# Altium footprint library Button_Switch_SMD.PcbLib: 169 footprints (part 10 of 12)
Each footprint in its own frame and in the unit in brackets; x right, y up, seen from the top. Pads: shape width x height; smd on the part's side, far side on the other; paste and mask are expansions set on the pad; w line width, h text height; cw(c..) or ccw(c..) is an arc to the next point about the centre after c.
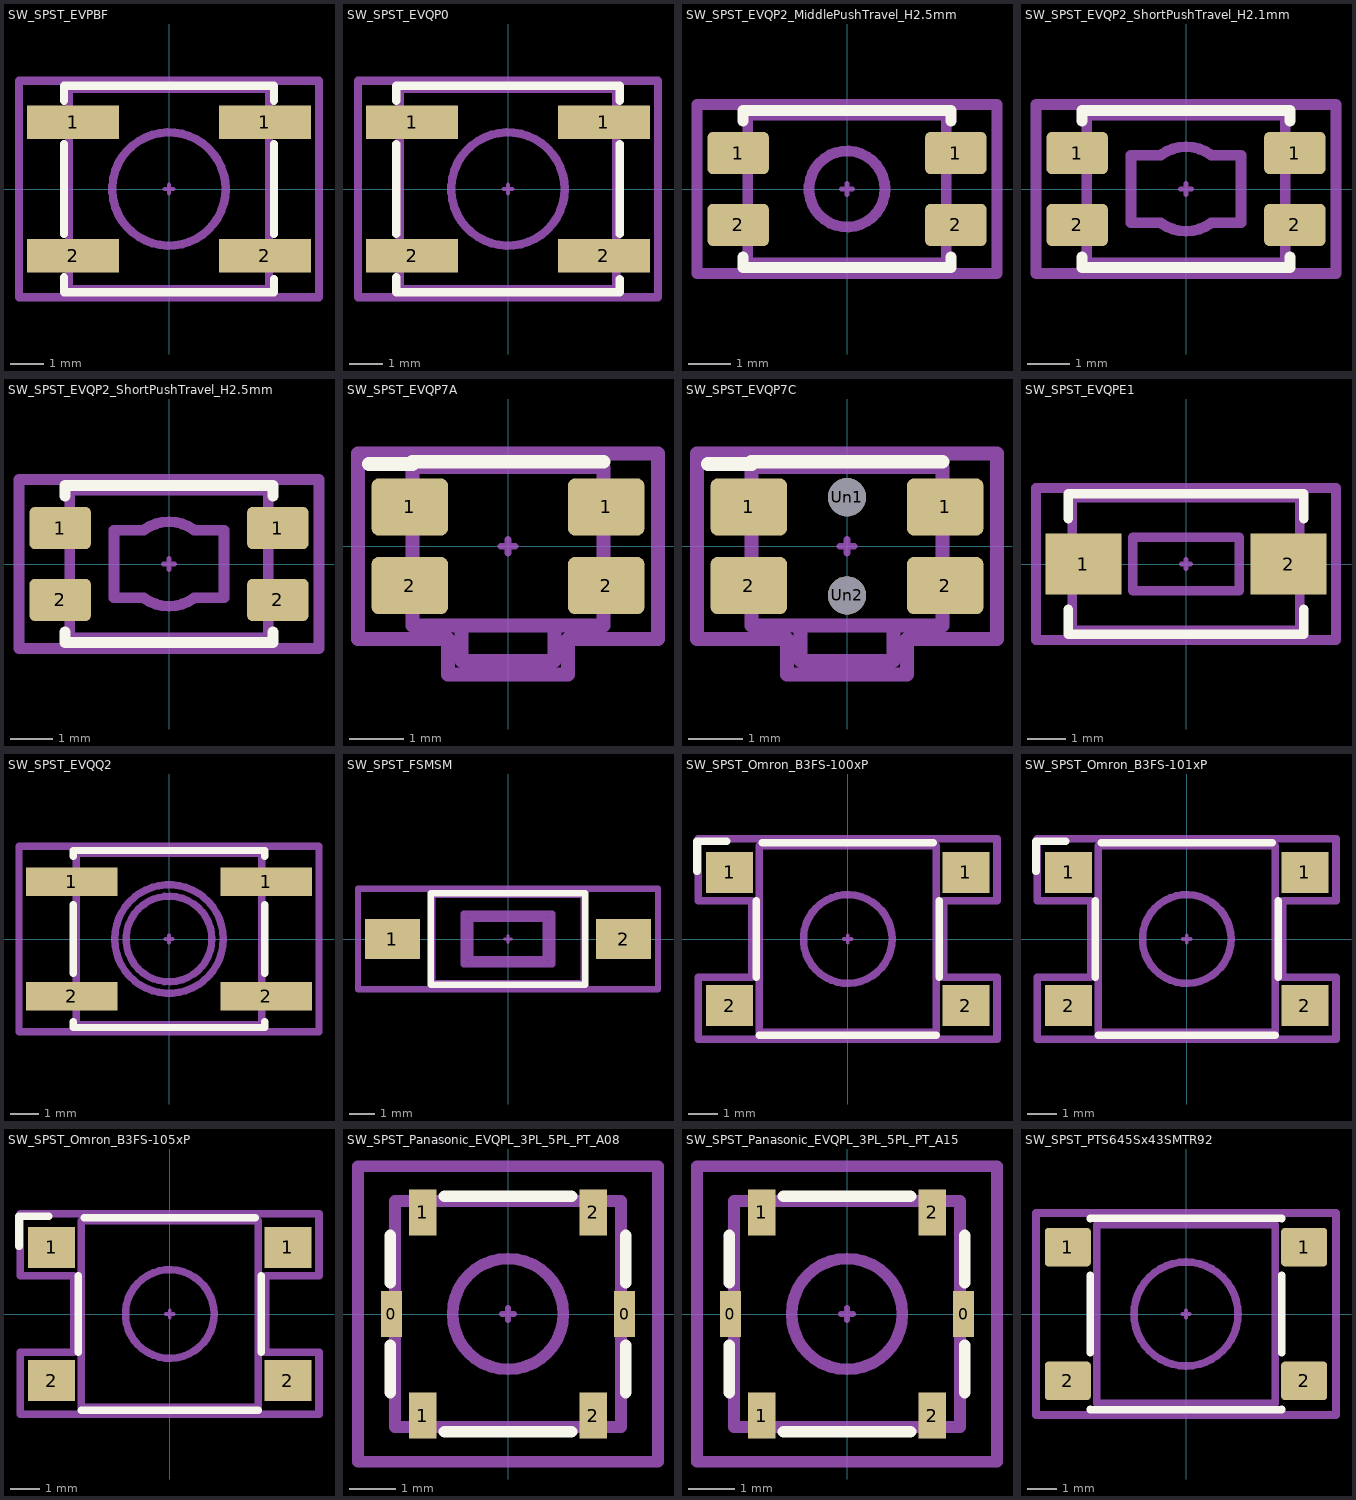
[diagram p9: the footprints below, top view; thin cyan lines are the x and y axes]

## SW_SPST_EVPBF [mm] "SW_SPST_EVPBF"
pads (4):
  rect 2.75x1 smd: 1(-2.88,2) 1(2.88,2) 2(-2.88,-2) 2(2.88,-2)
F.SilkS:
  lines w0.254: -3.15,-2.65 -3.15,-3.1 3.15,-3.1 3.15,-2.7 ; -3.15,-1.35 -3.15,1.35 ; -3.15,2.65 -3.15,3.1 3.15,3.1 3.15,2.65 ; 3.15,-1.35 3.15,1.35
Top Component Center:
  lines w0.127: -0.127,0 0.127,0 ; 0,-0.127 0,0.127
Top Assembly:
  circle w0.254: c0,0 r1.7
  lines w0.254: -3,-3 3,-3 3,3 -3,3 -3,-3
Top Courtyard:
  lines w0.254: -4.5,-3.25 4.5,-3.25 4.5,3.25 -4.5,3.25 -4.5,-3.25
Top Designator:
  text ".Designator" at -3.432,-0.345 h1.52

## SW_SPST_EVQP0 [mm] "SW_SPST_EVQP0"
pads (4):
  rect 2.75x1 smd: 1(-2.88,2) 1(2.88,2) 2(-2.88,-2) 2(2.88,-2)
F.SilkS:
  lines w0.254: -3.35,-2.65 -3.35,-3.1 3.35,-3.1 3.35,-2.7 ; -3.35,-1.35 -3.35,1.35 ; -3.35,2.65 -3.35,3.1 3.35,3.1 3.35,2.65 ; 3.35,-1.35 3.35,1.35
Top Component Center:
  lines w0.127: -0.127,0 0.127,0 ; 0,-0.127 0,0.127
Top Assembly:
  circle w0.254: c0,0 r1.7
  lines w0.254: -3.25,-3 3.25,-3 3.25,3 -3.25,3 -3.25,-3
Top Courtyard:
  lines w0.254: -4.5,-3.25 4.5,-3.25 4.5,3.25 -4.5,3.25 -4.5,-3.25
Top Designator:
  text ".Designator" at -3.432,-0.345 h1.52

## SW_SPST_EVQP2_MiddlePushTravel_H2.5mm [mm] "SW_SPST_EVQP2_MiddlePushTravel_H2.5mm"
pads (4):
  rrect25% 1.45x1 smd: 1(-2.575,0.85) 1(2.575,0.85) 2(-2.575,-0.85) 2(2.575,-0.85)
F.SilkS:
  lines w0.254: -2.46,-1.61 -2.46,-1.86 2.46,-1.86 2.46,-1.61 ; -2.46,1.61 -2.46,1.86 2.46,1.86 2.46,1.61
Top Component Center:
  lines w0.127: -0.127,0 0.127,0 ; 0,-0.127 0,0.127
Top Assembly:
  circle w0.254: c0,0 r0.9
  lines w0.254: -2.35,-1.75 2.35,-1.75 2.35,1.75 -2.35,1.75 -2.35,-1.75
Top Courtyard:
  lines w0.254: -3.55,-2 3.55,-2 3.55,2 -3.55,2 -3.55,-2
Top Designator:
  text ".Designator" at -3.432,-0.345 h1.52

## SW_SPST_EVQP2_ShortPushTravel_H2.1mm [mm] "SW_SPST_EVQP2_ShortPushTravel_H2.1mm"
pads (4):
  rrect25% 1.45x1 smd: 1(-2.575,0.85) 1(2.575,0.85) 2(-2.575,-0.85) 2(2.575,-0.85)
F.SilkS:
  lines w0.254: -2.46,-1.61 -2.46,-1.86 2.46,-1.86 2.46,-1.61 ; -2.46,1.61 -2.46,1.86 2.46,1.86 2.46,1.61
Top Component Center:
  lines w0.127: -0.127,0 0.127,0 ; 0,-0.127 0,0.127
Top Assembly:
  lines w0.254: -2.35,-1.75 -2.35,1.75 2.35,1.75 2.35,-1.75 -2.35,-1.75 ; -1.3,-0.8 -1.3,0.8 -0.6,0.8 cw(c0,0) 0.6,0.8 1.3,0.8 1.3,-0.8 0.6,-0.8 cw(c0,0) -0.6,-0.8 -1.3,-0.8
Top Courtyard:
  lines w0.254: -3.55,-2 -3.55,2 3.55,2 3.55,-2 -3.55,-2
Top Designator:
  text ".Designator" at -3.432,-0.345 h1.52

## SW_SPST_EVQP2_ShortPushTravel_H2.5mm [mm] "SW_SPST_EVQP2_ShortPushTravel_H2.5mm"
pads (4):
  rrect25% 1.45x1 smd: 1(-2.575,0.85) 1(2.575,0.85) 2(-2.575,-0.85) 2(2.575,-0.85)
F.SilkS:
  lines w0.254: -2.46,-1.61 -2.46,-1.86 2.46,-1.86 2.46,-1.61 ; -2.46,1.61 -2.46,1.86 2.46,1.86 2.46,1.61
Top Component Center:
  lines w0.127: -0.127,0 0.127,0 ; 0,-0.127 0,0.127
Top Assembly:
  lines w0.254: -2.35,-1.75 -2.35,1.75 2.35,1.75 2.35,-1.75 -2.35,-1.75 ; -1.3,-0.8 -1.3,0.8 -0.6,0.8 cw(c0,0) 0.6,0.8 1.3,0.8 1.3,-0.8 0.6,-0.8 cw(c0,0) -0.6,-0.8 -1.3,-0.8
Top Courtyard:
  lines w0.254: -3.55,-2 -3.55,2 3.55,2 3.55,-2 -3.55,-2
Top Designator:
  text ".Designator" at -3.432,-0.345 h1.52

## SW_SPST_EVQP7A [mm] "SW_SPST_EVQP7A"
pads (4):
  rrect24% 1.4x1.05 smd: 1(-1.8,0.72) 1(1.8,0.72) 2(-1.8,-0.72) 2(1.8,-0.72)
F.SilkS:
  lines w0.254: -2.55,1.51 -1.75,1.51 -1.75,1.55 1.75,1.55
Top Component Center:
  lines w0.127: -0.127,0 0.127,0 ; 0,-0.127 0,0.127
Top Assembly:
  lines w0.254: -0.85,-1.45 -0.85,-2.1 0.85,-2.1 0.85,-1.45 ; -1.75,-1.45 -1.75,1.45 1.75,1.45 1.75,-1.45 -1.75,-1.45
Top Courtyard:
  lines w0.254: -2.75,-1.7 -2.75,1.7 2.75,1.7 2.75,-1.7 1.1,-1.7 1.1,-2.35 -1.1,-2.35 -1.1,-1.7 -2.75,-1.7
Top Designator:
  text ".Designator" at -3.432,-0.345 h1.52

## SW_SPST_EVQP7C [mm] "SW_SPST_EVQP7C"
pads (6):
  rrect24% 1.4x1.05 smd: 1(-1.8,0.72) 1(1.8,0.72) 2(-1.8,-0.72) 2(1.8,-0.72)
  round 0.7 hole 0.7: Un1(0,0.9) Un2(0,-0.9)
F.SilkS:
  lines w0.254: -2.55,1.51 -1.75,1.51 -1.75,1.55 1.75,1.55
Top Component Center:
  lines w0.127: -0.127,0 0.127,0 ; 0,-0.127 0,0.127
Top Assembly:
  lines w0.254: -0.85,-1.45 -0.85,-2.1 0.85,-2.1 0.85,-1.45 ; -1.75,-1.45 1.75,-1.45 1.75,1.45 -1.75,1.45 -1.75,-1.45
Top Courtyard:
  lines w0.254: -2.75,-1.7 -1.1,-1.7 -1.1,-2.35 1.1,-2.35 1.1,-1.7 2.75,-1.7 2.75,1.7 -2.75,1.7 -2.75,-1.7
Top Designator:
  text ".Designator" at -3.432,-0.345 h1.52

## SW_SPST_EVQPE1 [mm] "SW_SPST_EVQPE1"
pads (2):
  rect 2x1.6 smd: 1(-2.7,0) 2(2.7,0)
F.SilkS:
  lines w0.254: -3.1,-1.2 -3.1,-1.85 3.1,-1.85 3.1,-1.2 ; -3.1,1.2 -3.1,1.85 3.1,1.85 3.1,1.2
Top Component Center:
  lines w0.127: -0.127,0 0.127,0 ; 0,-0.127 0,0.127
Top Assembly:
  lines w0.254: -3,-1.75 -3,1.75 3,1.75 3,-1.75 -3,-1.75 ; -1.4,-0.7 -1.4,0.7 1.4,0.7 1.4,-0.7 -1.4,-0.7
Top Courtyard:
  lines w0.254: -3.95,-2 -3.95,2 3.95,2 3.95,-2 -3.95,-2
Top Designator:
  text ".Designator" at -3.432,0.798 h1.52
3D body "SW_SPST_EVQPE1.step": height 2.1, standoff 0, extent -2.55,-1.75 2.55,1.75

## SW_SPST_EVQQ2 [mm] "SW_SPST_EVQQ2"
pads (4):
  rect 3.2x1 smd: 1(-3.4,2) 1(3.4,2) 2(-3.4,-2) 2(3.4,-2)
F.SilkS:
  lines w0.254: -3.35,-2.9 -3.35,-3.1 3.35,-3.1 3.35,-2.9 ; -3.35,-1.2 -3.35,1.2 ; -3.35,2.9 -3.35,3.1 3.35,3.1 3.35,2.9 ; 3.35,-1.2 3.35,1.2
Top Component Center:
  lines w0.127: -0.127,0 0.127,0 ; 0,-0.127 0,0.127
Top Assembly:
  circle w0.254: c0,0 r1.9
  circle w0.254: c0,0 r1.5
  lines w0.254: -3.25,-3 3.25,-3 3.25,3 -3.25,3 -3.25,-3
Top Courtyard:
  lines w0.254: -5.25,-3.25 5.25,-3.25 5.25,3.25 -5.25,3.25 -5.25,-3.25
Top Designator:
  text ".Designator" at -3.432,-0.345 h1.52

## SW_SPST_FSMSM [mm] "SW_SPST_FSMSM"
pads (2):
  rect 2.18x1.6 smd: 1(-4.59,0) 2(4.59,0)
F.SilkS:
  lines w0.254: -3.06,-1.81 -3.06,1.81 3.06,1.81 3.06,-1.81 -3.06,-1.81
Top Component Center:
  lines w0.127: -0.127,0 0.127,0 ; 0,-0.127 0,0.127
Top Assembly:
  lines w0.254: -3,-1.75 -3,1.75 3,1.75 3,-1.75 -3,-1.75 ; -1.75,-1 -1.75,1 1.75,1 1.75,-1 -1.75,-1 ; -1.5,-0.8 -1.5,0.8 1.5,0.8 1.5,-0.8 -1.5,-0.8
Top Courtyard:
  lines w0.254: -5.95,-2 -5.95,2 5.95,2 5.95,-2 -5.95,-2
Top Designator:
  text ".Designator" at -3.432,-0.345 h1.52
3D body "SW_SPST_FSMSM.step": height 2, standoff 0, extent -4.5,-1.75 4.5,1.75

## SW_SPST_Omron_B3FS-100xP [mm] "SW_SPST_Omron_B3FS-100xP"
pads (4):
  rect 1.6x1.4 smd: 1(-4,2.25) 1(4,2.25) 2(-4,-2.25) 2(4,-2.25)
F.SilkS:
  lines w0.254: -5.1,2.3 -5.1,3.3 -4.1,3.3 ; -3.1,-1.3 -3.1,1.3 ; -3,-3.25 3,-3.25 ; -2.9,3.25 2.9,3.25 ; 3.1,-1.3 3.1,1.3
Top Component Center:
  lines w0.127: -0.127,0 0.127,0 ; 0,-0.127 0,0.127
Top Assembly:
  circle w0.254: c0,0 r1.5
  lines w0.254: -3,-3.15 -3,3.15 3,3.15 3,-3.15 -3,-3.15
Top Courtyard:
  lines w0.254: -5.05,-3.4 -5.05,-1.3 -3.25,-1.3 -3.25,1.3 -5.05,1.3 -5.05,3.4 5.05,3.4 5.05,1.3 3.25,1.3 3.25,-1.3 5.05,-1.3 5.05,-3.4 -5.05,-3.4
Top Designator:
  text ".Designator" at -3.432,-0.345 h1.52

## SW_SPST_Omron_B3FS-101xP [mm] "SW_SPST_Omron_B3FS-101xP"
pads (4):
  rect 1.6x1.4 smd: 1(-4,2.25) 1(4,2.25) 2(-4,-2.25) 2(4,-2.25)
F.SilkS:
  lines w0.254: -5.1,2.3 -5.1,3.3 -4.1,3.3 ; -3.1,-1.3 -3.1,1.3 ; -3,-3.25 3,-3.25 ; -2.9,3.25 2.9,3.25 ; 3.1,-1.3 3.1,1.3
Top Component Center:
  lines w0.127: -0.127,0 0.127,0 ; 0,-0.127 0,0.127
Top Assembly:
  circle w0.254: c0,0 r1.5
  lines w0.254: -3,-3.15 -3,3.15 3,3.15 3,-3.15 -3,-3.15
Top Courtyard:
  lines w0.254: -5.05,-3.4 -5.05,-1.3 -3.25,-1.3 -3.25,1.3 -5.05,1.3 -5.05,3.4 5.05,3.4 5.05,1.3 3.25,1.3 3.25,-1.3 5.05,-1.3 5.05,-3.4 -5.05,-3.4
Top Designator:
  text ".Designator" at -3.432,-0.345 h1.52

## SW_SPST_Omron_B3FS-105xP [mm] "SW_SPST_Omron_B3FS-105xP"
pads (4):
  rect 1.6x1.4 smd: 1(-4,2.25) 1(4,2.25) 2(-4,-2.25) 2(4,-2.25)
F.SilkS:
  lines w0.254: -5.1,2.3 -5.1,3.3 -4.1,3.3 ; -3.1,-1.3 -3.1,1.3 ; -3,-3.25 3,-3.25 ; -2.9,3.25 2.9,3.25 ; 3.1,-1.3 3.1,1.3
Top Component Center:
  lines w0.127: -0.127,0 0.127,0 ; 0,-0.127 0,0.127
Top Assembly:
  circle w0.254: c0,0 r1.5
  lines w0.254: -3,-3.15 -3,3.15 3,3.15 3,-3.15 -3,-3.15
Top Courtyard:
  lines w0.254: -5.05,-3.4 -5.05,-1.3 -3.25,-1.3 -3.25,1.3 -5.05,1.3 -5.05,3.4 5.05,3.4 5.05,1.3 3.25,1.3 3.25,-1.3 5.05,-1.3 5.05,-3.4 -5.05,-3.4
Top Designator:
  text ".Designator" at -3.432,-0.345 h1.52
3D body "SW_SPST_Omron_B3FS-105xP.step": height 7.3, standoff 0, extent -4,-3.16 4,3.16

## SW_SPST_Panasonic_EVQPL_3PL_5PL_PT_A08 [mm] "SW_SPST_Panasonic_EVQPL_3PL_5PL_PT_A08"
pads (6):
  rect 0.45x1 smd: 0(-2.525,0) 0(2.525,0)
  rect 0.6x1 smd: 1(-1.85,-2.2) 1(-1.85,2.2) 2(1.85,-2.2) 2(1.85,2.2)
F.SilkS:
  lines w0.254: -2.55,-1.7 -2.55,-0.675 ; -2.55,0.675 -2.55,1.7 ; -1.375,-2.55 1.375,-2.55 ; -1.375,2.55 1.375,2.55 ; 2.55,-1.7 2.55,-0.675 ; 2.55,0.675 2.55,1.7
Top Component Center:
  lines w0.127: -0.127,0 0.127,0 ; 0,-0.127 0,0.127
Top Assembly:
  circle w0.254: c0,0 r1.2
  lines w0.254: -2.45,-2.45 -2.45,2.45 2.45,2.45 2.45,-2.45 -2.45,-2.45
Top Courtyard:
  lines w0.254: -3.25,-3.2 -3.25,3.2 3.25,3.2 3.25,-3.2 -3.25,-3.2
Top Designator:
  text ".Designator" at -3.432,-0.345 h1.52

## SW_SPST_Panasonic_EVQPL_3PL_5PL_PT_A15 [mm] "SW_SPST_Panasonic_EVQPL_3PL_5PL_PT_A15"
pads (6):
  rect 0.45x1 smd: 0(-2.525,0) 0(2.525,0)
  rect 0.6x1 smd: 1(-1.85,-2.2) 1(-1.85,2.2) 2(1.85,-2.2) 2(1.85,2.2)
F.SilkS:
  lines w0.254: -2.55,-1.7 -2.55,-0.675 ; -2.55,0.675 -2.55,1.7 ; -1.375,-2.55 1.375,-2.55 ; -1.375,2.55 1.375,2.55 ; 2.55,-1.7 2.55,-0.675 ; 2.55,0.675 2.55,1.7
Top Component Center:
  lines w0.127: -0.127,0 0.127,0 ; 0,-0.127 0,0.127
Top Assembly:
  circle w0.254: c0,0 r1.2
  lines w0.254: -2.45,-2.45 2.45,-2.45 2.45,2.45 -2.45,2.45 -2.45,-2.45
Top Courtyard:
  lines w0.254: -3.25,-3.2 3.25,-3.2 3.25,3.2 -3.25,3.2 -3.25,-3.2
Top Designator:
  text ".Designator" at -3.432,-0.345 h1.52

## SW_SPST_PTS645Sx43SMTR92 [mm] "SW_SPST_PTS645Sx43SMTR92"
pads (4):
  rrect19% 1.55x1.3 smd: 1(-3.98,2.25) 1(3.98,2.25) 2(-3.98,-2.25) 2(3.98,-2.25)
F.SilkS:
  lines w0.254: -3.23,-3.2 -3.23,-3.23 3.23,-3.23 3.23,-3.2 ; -3.23,-1.3 -3.23,1.3 ; -3.23,3.2 -3.23,3.23 3.23,3.23 3.23,3.2 ; 3.23,-1.3 3.23,1.3
Top Component Center:
  lines w0.127: -0.127,0 0.127,0 ; 0,-0.127 0,0.127
Top Assembly:
  circle w0.254: c0,0 r1.75
  lines w0.254: -3,-3 3,-3 3,3 -3,3 -3,-3
Top Courtyard:
  lines w0.254: -5.05,-3.4 5.05,-3.4 5.05,3.4 -5.05,3.4 -5.05,-3.4
Top Designator:
  text ".Designator" at -3.432,-0.345 h1.52